# EAGLE library part CONN_50PIN (library motor)
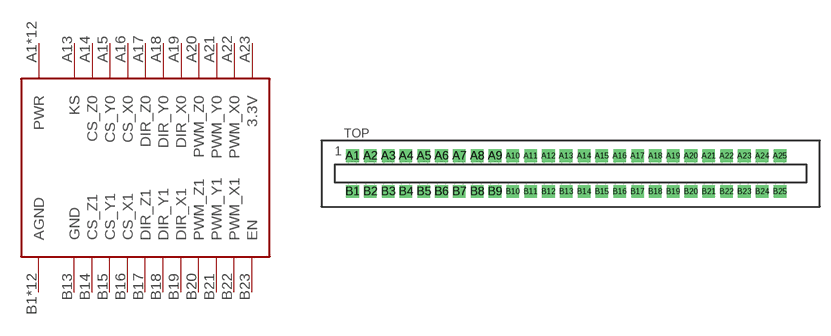
[diagram p5: symbol with the pads of CONN_50PIN; footprint CONN_50PIN]

Designator prefix -

## CONN_50PIN  [CONN_50PIN]
A1  PWR
A2  PWR
A3  PWR
A4  PWR
A5  PWR
A6  PWR
A7  PWR
A8  PWR
A9  PWR
A10  PWR
A11  PWR
A12  PWR
A13  KS
A14  CS_Z0
A15  CS_Y0
A16  CS_X0
A17  DIR_Z0
A18  DIR_Y0
A19  DIR_X0
A20  PWM_Z0
A21  PWM_Y0
A22  PWM_X0
A23  3.3V
B1  AGND
B2  AGND
B3  AGND
B4  AGND
B5  AGND
B6  AGND
B7  AGND
B8  AGND
B9  AGND
B10  AGND
B11  AGND
B12  AGND
B13  GND
B14  CS_Z1
B15  CS_Y1
B16  CS_X1
B17  DIR_Z1
B18  DIR_Y1
B19  DIR_X1
B20  PWM_Z1
B21  PWM_Y1
B22  PWM_X1
B23  EN

## Footprint CONN_50PIN (pad centres in mm)
drill 1.2 pad 1.778 square: A1 -30.446,-2.446; A2 -27.906,-2.446; A3 -25.366,-2.446; A4 -22.826,-2.446; A5 -20.286,-2.446; A6 -17.746,-2.446; A7 -15.206,-2.446; A8 -12.666,-2.446; A9 -10.126,-2.446; A10 -7.586,-2.446; A11 -5.046,-2.446; A12 -2.506,-2.446; A13 0,-2.446; A14 2.574,-2.446; A15 5.114,-2.446; A16 7.654,-2.446; A17 10.194,-2.446; A18 12.734,-2.446; A19 15.274,-2.446; A20 17.814,-2.446; A21 20.354,-2.446; A22 22.894,-2.446; A23 25.434,-2.446; A24 27.974,-2.446; A25 30.514,-2.446; B1 -30.446,-7.526; B2 -27.906,-7.526; B3 -25.366,-7.526; B4 -22.826,-7.526; B5 -20.286,-7.526; B6 -17.746,-7.526; B7 -15.206,-7.526; B8 -12.666,-7.526; B9 -10.126,-7.526; B10 -7.586,-7.526; B11 -5.046,-7.526; B12 -2.506,-7.526; B13 0.034,-7.526; B14 2.574,-7.526; B15 5.114,-7.526; B16 7.654,-7.526; B17 10.194,-7.526; B18 12.734,-7.526; B19 15.274,-7.526; B20 17.814,-7.526; B21 20.354,-7.526; B22 22.894,-7.526; B23 25.434,-7.526; B24 27.974,-7.526; B25 30.514,-7.526